# Altium footprint library ZYGD_TAS.PcbLib: 39 footprints (part 3 of 3)
Each footprint in its own frame and in the unit in brackets; x right, y up, seen from the top. Pads: shape width x height; smd on the part's side, far side on the other; paste and mask are expansions set on the pad; w line width, h text height; cw(c..) or ccw(c..) is an arc to the next point about the centre after c.
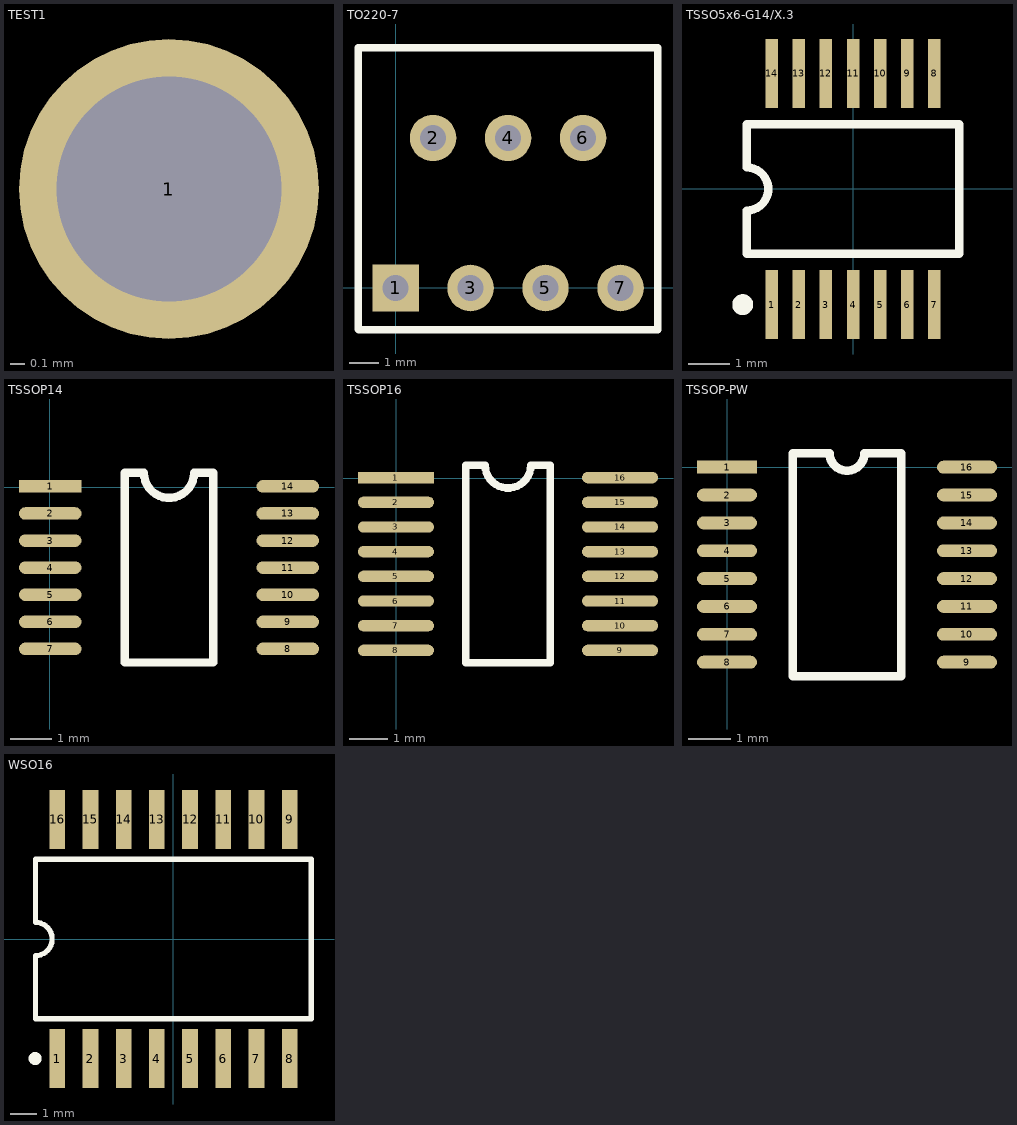
[diagram p2: the footprints below, top view; thin cyan lines are the x and y axes]

## TEST1 [mm]
pads (1):
  round 2 hole 1.5: 1(15.371,3.057)

## TO220-7 [mil]
pads (7):
  rect 62x62 hole 35: 1(0,0)
  round 62 hole 35: 2(50,200) 3(100,0) 4(150,200) 5(200,0) 6(250,200) 7(300,0)
Top Overlay:
  lines w10: -50,139 -50,-55 -49,-56 350,-56 350,140 350,320 -50,320 -50,140

## TSSO5x6-G14/X.3 [mm]
pads (14):
  rect 0.3x1.65 smd: 1(-1.954,-2.779) 2(-1.304,-2.779) 3(-0.654,-2.779) 4(-0.004,-2.779) 5(0.646,-2.779) 6(1.296,-2.779) 7(1.946,-2.779) 8(1.946,2.771) 9(1.296,2.771) 10(0.646,2.771) 11(-0.004,2.771) 12(-0.654,2.771) 13(-1.304,2.771) 14(-1.954,2.771)
Top Overlay:
  circle w0.25: c-2.654,-2.779 r0.125
  lines w0.2: -2.554,-1.554 2.546,-1.554 2.546,1.546 -2.554,1.546 -2.554,0.513 cw(c-2.554,-0.004) -2.554,-0.52 -2.554,-1.554

## TSSOP14 [mm]
pads (14):
  rect 1.5x0.3 smd: 1(0.009,0.021)
  oval 1.5x0.3 smd: 2(0.009,-0.629) 3(0.009,-1.279) 4(0.009,-1.929) 5(0.009,-2.579) 6(0.009,-3.229) 7(0.009,-3.879) 8(5.709,-3.879) 9(5.709,-3.229) 10(5.709,-2.579) 11(5.709,-1.929) 12(5.709,-1.279) 13(5.709,-0.629) 14(5.709,0.021)
Top Overlay:
  lines w0.2: 1.794,0.346 1.794,-4.204 3.924,-4.204 3.924,0.346 ; 2.259,0.346 ccw(c2.859,0.346) 3.459,0.346
  lines w0.203: 1.794,0.346 2.259,0.346 ; 3.459,0.346 3.924,0.346

## TSSOP16 [mm]
pads (16):
  rect 2x0.3 smd: 1(-0.004,0.022)
  oval 2x0.3 smd: 2(-0.004,-0.628) 3(-0.004,-1.278) 4(-0.004,-1.928) 5(-0.004,-2.578) 6(-0.004,-3.228) 7(-0.004,-3.878) 8(-0.004,-4.528) 9(5.896,-4.528) 10(5.896,-3.878) 11(5.896,-3.228) 12(5.896,-2.578) 13(5.896,-1.928) 14(5.896,-1.278) 15(5.896,-0.628) 16(5.896,0.022)
Top Overlay:
  lines w0.2: 1.831,0.347 1.831,-4.853 4.061,-4.853 4.061,0.347 ; 2.346,0.347 ccw(c2.946,0.347) 3.546,0.347
  lines w0.203: 1.831,0.347 2.346,0.347 ; 3.546,0.347 4.061,0.347

## TSSOP-PW [mm]
pads (16):
  rect 1.4x0.3 smd: 1(0,0)
  oval 1.4x0.3 smd: 2(0,-0.65) 3(0,-1.3) 4(0,-1.95) 5(0,-2.6) 6(0,-3.25) 7(0,-3.9) 8(0,-4.55) 9(5.6,-4.55) 10(5.6,-3.9) 11(5.6,-3.25) 12(5.6,-2.6) 13(5.6,-1.95) 14(5.6,-1.3) 15(5.6,-0.65) 16(5.6,0)
Top Overlay:
  lines w0.2: 2.362,0.325 1.535,0.325 1.535,-4.875 4.065,-4.875 4.065,0.325 3.226,0.325 ; 2.394,0.325 ccw(c2.8,0.325) 3.206,0.325

## WSO16 [mm]
pads (16):
  rect 0.6x2.25 smd: 1(-4.445,-4.575) 2(-3.175,-4.575) 3(-1.905,-4.575) 4(-0.635,-4.575) 5(0.635,-4.575) 6(1.905,-4.575) 7(3.175,-4.575) 8(4.445,-4.575) 9(4.445,4.575) 10(3.175,4.575) 11(1.905,4.575) 12(0.635,4.575) 13(-0.635,4.575) 14(-1.905,4.575) 15(-3.175,4.575) 16(-4.445,4.575)
Top Overlay:
  circle w0.25: c-5.295,-4.575 r0.125
  lines w0.2: -5.275,-3.05 -5.275,-0.635 ccw(c-5.275,0) -5.275,0.635 -5.275,3.05 5.275,3.05 5.275,-3.05 -5.275,-3.05